# Altium footprint library B0540WS-7.PcbLib: 3 footprints
Each footprint in its own frame and in the unit in brackets; x right, y up, seen from the top. Pads: shape width x height; smd on the part's side, far side on the other; paste and mask are expansions set on the pad; w line width, h text height; cw(c..) or ccw(c..) is an arc to the next point about the centre after c.
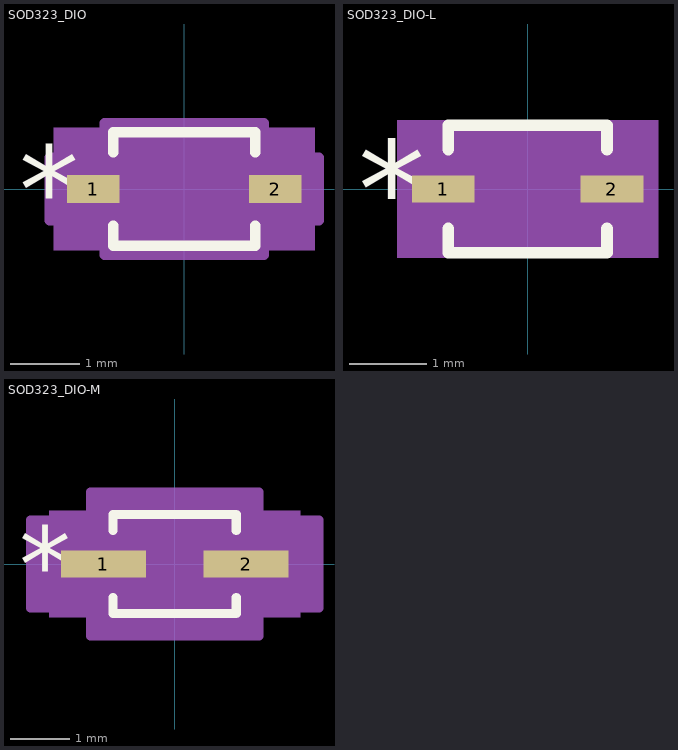
[diagram p0: the footprints below, top view; thin cyan lines are the x and y axes]

## SOD323_DIO [mil]
pads (2):
  rect 30x16 smd paste+0 mask+0: 1(-52,0) 2(52,0)
Top Overlay:
  lines w6: -40.5,-21.1 -40.5,-32.5 40.5,-32.5 40.5,-21.1 ; -40.5,21.1 -40.5,32.5 40.5,32.5 40.5,21.1
  text "*" at -94.5,-25 h50
Mechanical 5:
  region: 74.5,-35 -74.5,-35 -74.5,35 74.5,35
Mechanical 13:
  lines w1: -35.5,-13.75 -21.75,-27.5 ; -35.5,13.75 -21.75,27.5 ; -53,-7 -53,7 -35.5,7 -35.5,-7 -53,-7 ; -35.5,-27.5 35.5,-27.5 35.5,27.5 -35.5,27.5 -35.5,-27.5 ; 35.5,-7 35.5,7 53,7 53,-7 35.5,-7
  text "*" at -38,-25 h50
Mechanical 15:
  region: -45.5,-18 -77,-18 -77,18 -45.5,18 -45.5,37.5 45.5,37.5 45.5,18 77,18 77,-18 45.5,-18 45.5,-37.5 -45.5,-37.5
  lines w6: -77,-18 -77,18 -45.5,18 -45.5,37.5 45.5,37.5 45.5,18 77,18 77,-18 45.5,-18 45.5,-37.5 -45.5,-37.5 -45.5,-18 -77,-18
3D body "SOD323_DIO.step": height 47.09, standoff 0, extent -52.99,-27.48 52.99,27.48
3D body "SOD323_DIO.step": height 47.09, standoff 0, extent -52.99,-27.48 52.99,27.48

## SOD323_DIO-L [mil]
pads (2):
  rect 32x14 smd paste+0 mask+0: 1(-43,0) 2(43,0)
Top Overlay:
  lines w6: -40.5,-20.1 -40.5,-32.5 40.5,-32.5 40.5,-20.1 ; -40.5,20.1 -40.5,32.5 40.5,32.5 40.5,20.1
  text "*" at -86.5,-25 h50
Mechanical 5:
  region: 66.5,-35 -66.5,-35 -66.5,35 66.5,35
Mechanical 13:
  lines w1: -35.5,-13.75 -21.75,-27.5 ; -35.5,13.75 -21.75,27.5 ; -53,-7 -35.5,-7 -35.5,7 -53,7 -53,-7 ; -35.5,-27.5 -35.5,27.5 35.5,27.5 35.5,-27.5 -35.5,-27.5 ; 35.5,-7 53,-7 53,7 35.5,7 35.5,-7
  text "*" at -38,-25 h50
Mechanical 15:
  region: -39.5,-11 -63,-11 -63,11 -39.5,11 -39.5,31.5 39.5,31.5 39.5,11 63,11 63,-11 39.5,-11 39.5,-31.5 -39.5,-31.5
  lines w6: -63,-11 -39.5,-11 -39.5,-31.5 39.5,-31.5 39.5,-11 63,-11 63,11 39.5,11 39.5,31.5 -39.5,31.5 -39.5,11 -63,11 -63,-11
3D body "SOD323_DIO.step": height 47.09, standoff 0, extent -52.99,-27.48 52.99,27.48

## SOD323_DIO-M [mil]
pads (2):
  rect 56x18 smd paste+0 mask+0: 1(-47,0) 2(47,0)
Top Overlay:
  lines w6: -40.5,-22.1 -40.5,-32.5 40.5,-32.5 40.5,-22.1 ; -40.5,22.1 -40.5,32.5 40.5,32.5 40.5,22.1
  text "*" at -102.5,-25 h50
Mechanical 5:
  region: 82.5,-35 -82.5,-35 -82.5,35 82.5,35
Mechanical 13:
  lines w1: -35.5,-13.75 -21.75,-27.5 ; -35.5,13.75 -21.75,27.5 ; -53,-7 -35.5,-7 -35.5,7 -53,7 -53,-7 ; -35.5,-27.5 -35.5,27.5 35.5,27.5 35.5,-27.5 -35.5,-27.5 ; 35.5,-7 53,-7 53,7 35.5,7 35.5,-7
  text "*" at -38,-25 h50
Mechanical 15:
  region: -55.5,-29 -95,-29 -95,29 -55.5,29 -55.5,47.5 55.5,47.5 55.5,29 95,29 95,-29 55.5,-29 55.5,-47.5 -55.5,-47.5
  lines w6: -95,-29 -55.5,-29 -55.5,-47.5 55.5,-47.5 55.5,-29 95,-29 95,29 55.5,29 55.5,47.5 -55.5,47.5 -55.5,29 -95,29 -95,-29
3D body "SOD323_DIO.step": height 47.09, standoff 0, extent -52.99,-27.48 52.99,27.48